# EAGLE library part DF11-10DP-2DSA (library CON-Hirose-AON)
CONN HEADER 10POS 2MM PCB GOLD
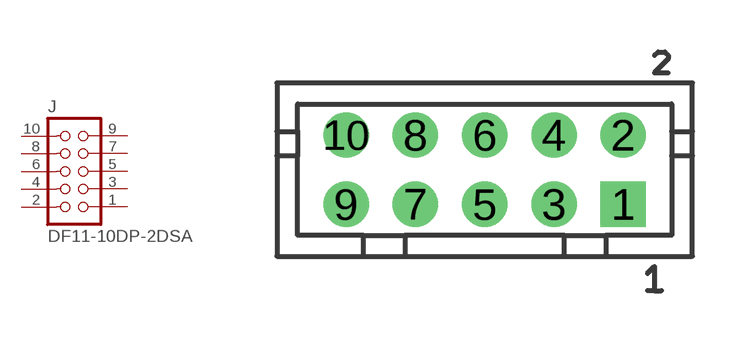
[diagram p2: symbol with the pads of DF11-10DP-2DSA; footprint DF11-10DP-2DSA]

Designator prefix J

## DF11-10DP-2DSA, DF11-10DP-2DSA(01)  [DF11-10DP-2DSA]
1  1  pas
2  2  pas
3  3  pas
4  4  pas
5  5  pas
6  6  pas
7  7  pas
8  8  pas
9  9  pas
10  10  pas

## Footprint DF11-10DP-2DSA (pad centres in mm)
drill 0.8 pad 1.3 square: 1 4,-1
drill 0.8 pad 1.3: 2 4,1; 3 2,-1; 4 2,1; 5 0,-1; 6 0,1; 7 -2,-1; 8 -2,1; 9 -4,-1; 10 -4,1